# Altium schematic symbol library Schlib1.SchLib: 2 symbols
Pins are listed as number, name and electrical type; pins without a type are passive.

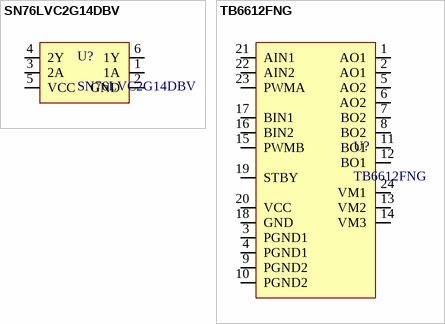
[diagram p0: symbols SN76LVC2G14DBV to TB6612FNG]

## SN76LVC2G14DBV
designator U?
footprint SOT23-6N (3x1.6x1.1mm(长宽高))
pins: 1 1A, 2 GND, 3 2A, 4 2Y, 5 VCC, 6 1Y

## TB6612FNG
designator U?
footprint SSOP24_N (8.3*7.8*1.6（长宽高）)
pins: 1 AO1, 2 AO1, 3 PGND1, 4 PGND1, 5 AO2, 6 AO2, 7 BO2, 8 BO2, 9 PGND2, 10 PGND2, 11 BO1, 12 BO1, 13 VM2, 14 VM3, 15 PWMB, 16 BIN2, 17 BIN1, 18 GND, 19 STBY, 20 VCC, 21 AIN1, 22 AIN2, 23 PWMA, 24 VM1